# Altium footprint library STeRG-ICs-Standard.PcbLib: 44 footprints (part 2 of 3)
Each footprint in its own frame and in the unit in brackets; x right, y up, seen from the top. Pads: shape width x height; smd on the part's side, far side on the other; paste and mask are expansions set on the pad; w line width, h text height; cw(c..) or ccw(c..) is an arc to the next point about the centre after c.
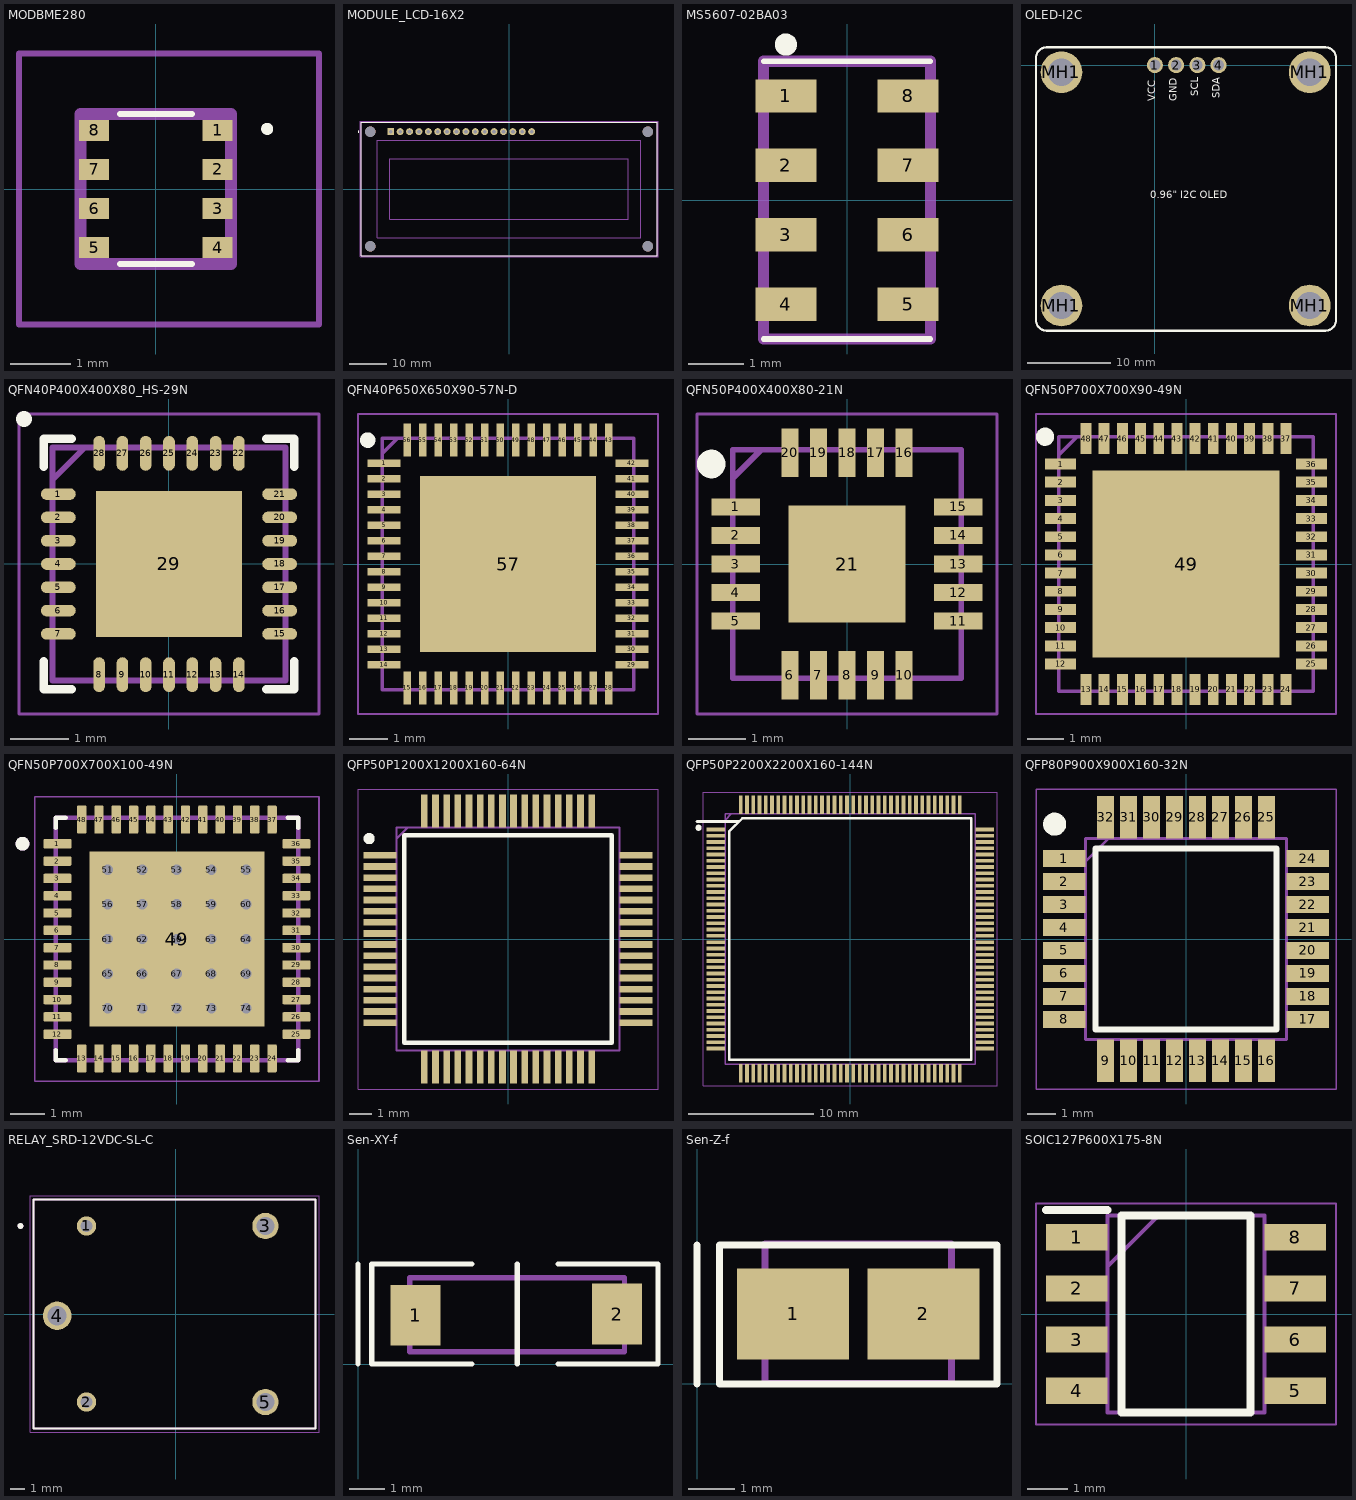
[diagram p1: the footprints below, top view; thin cyan lines are the x and y axes]

## MODBME280 [mm]
pads (8):
  rect 0.5x0.35 smd: 1(1.025,0.975) 2(1.025,0.325) 3(1.025,-0.325) 4(1.025,-0.975) 5(-1.025,-0.975) 6(-1.025,-0.325) 7(-1.025,0.325) 8(-1.025,0.975)
Top Overlay:
  lines w0.1: -0.6,-1.25 0.6,-1.25 ; -0.6,1.25 0.6,1.25 ; 1.8,1 cw(c1.85,1) 1.9,1 cw(c1.85,1) 1.8,1
Mechanical 13:
  lines w0.2: -1.25,-1.25 -1.25,1.25 1.25,1.25 1.25,-1.25 -1.25,-1.25
Mechanical 15:
  lines w0.1: -2.275,-2.25 -2.275,2.25 ; -2.275,-2.25 2.712,-2.25 ; -2.275,-2.25 -2.275,2.25 ; -2.275,-2.25 2.712,-2.25 ; -2.275,2.25 2.712,2.25 ; -2.275,2.25 2.712,2.25 ; 2.712,-2.25 2.712,2.25 ; 2.712,-2.25 2.712,2.25
3D body "MOD-BME280.stp": height 0.93, standoff 0, extent -1.25,-1.25 1.25,1.25

## MODULE_LCD-16X2 [mm]
height 14
pads (20):
  rect 1.88x1.88 / inner round 1.88 / far side rect 1.88x1.88 hole 1.016: 1(-32,15.5)
  round 1.88 hole 1.016: 2(-29.46,15.5) 3(-26.92,15.5) 4(-24.38,15.5) 5(-21.84,15.5) 6(-19.3,15.5) 7(-16.76,15.5) 8(-14.22,15.5) 9(-11.68,15.5) 10(-9.14,15.5) 11(-6.6,15.5) 12(-4.06,15.5) 13(-1.52,15.5) 14(1.02,15.5) 15(3.56,15.5) 16(6.1,15.5)
  round 2.8 hole 2.8 unplated: ""(-37.5,-15.5) ""(-37.5,15.5) ""(37.5,-15.5) ""(37.5,15.5)
Top Overlay:
  circle w0.2: c-40.75,15.5 r0.1
  lines w0.127: -40,-18 -40,18 40,18 40,-18 -40,-18
Mechanical 13:
  circle w0.2: c-40.75,15.5 r0.1
  lines w0.127: -40,-18 -40,18 40,18 40,-18 -40,-18 ; -35.65,-13.15 -35.65,13.15 35.65,13.15 35.65,-13.15 -35.65,-13.15 ; -32.25,-8.2 -32.25,8.2 32.25,8.2 32.25,-8.2 -32.25,-8.2
Mechanical 15:
  lines w0.05: -40.25,-18.25 40.25,-18.25 40.25,18.25 -40.25,18.25 -40.25,-18.25
3D body "step_temp.STEP": height 10.2, standoff -3, extent -40,-18 40,18

## MS5607-02BA03 [mm]
pads (8):
  rect 1.1x0.6 smd: 1(-1.1,1.875) 2(-1.1,0.625) 3(-1.1,-0.625) 4(-1.1,-1.875) 5(1.1,-1.875) 6(1.1,-0.625) 7(1.1,0.625) 8(1.1,1.875)
Top Overlay:
  circle w0.2: c-1.1,2.8 r0.1
  lines w0.1: -1.5,-2.5 1.5,-2.5 ; -1.5,2.5 1.5,2.5
Mechanical 13:
  lines w0.2: -1.5,-2.5 -1.5,2.5 1.5,2.5 1.5,-2.5 -1.5,-2.5
3D body "MS560702BA03-50.stp": height 0.95, standoff 0, extent -1.5,-2.4 1.5,2.6

## OLED-I2C [mm]
pads (8):
  round 1.935 hole 1.29: 1(0,0) 2(2.54,0) 3(5.08,0) 4(7.62,0)
  round 5 hole 3.25 unplated mask+0.2: MH1(-11.201,-28.804) MH1(-11.201,-0.864) MH1(18.542,-28.804) MH1(18.542,-0.864)
Top Overlay:
  lines w0.254: -10.033,2.134 20.422,2.134 cw(c20.422,0.864) 21.692,0.864 21.692,-30.556 cw(c20.422,-30.556) 20.422,-31.826 -12.979,-31.826 cw(c-12.979,-30.556) -14.249,-30.556 -14.249,0.864 cw(c-12.979,0.864) -12.979,2.134 -8.306,2.134
  text "VCC" at 0.364,-4.324 h1.5
  text "GND" at 2.904,-4.324 h1.5
  text "SCL" at 5.495,-3.714 h1.5
  text "SDA" at 8.035,-3.993 h1.5
  text "0.96\" I2C OLED" at -0.59,-16.265 h1.5
3D body "Tornillo plastico negro M3x6mm.SLDPRT": height 15.97, standoff 7.6, extent 15.83,-31.604 21.406,-26.004
3D body "Abstandhalter M3 IG-AG 12mm+6mm - PA 66, schwarz.stp": height 12, standoff -6, extent 15.868,-31.979 21.368,-25.628
3D body "Tornillo plastico negro M3x6mm.SLDPRT": height 15.97, standoff 7.6, extent 15.881,-3.689 21.457,1.911
3D body "Abstandhalter M3 IG-AG 12mm+6mm - PA 66, schwarz.stp": height 12, standoff -6, extent 15.919,-4.064 21.419,2.286
3D body "Tornillo plastico negro M3x6mm.SLDPRT": height 15.97, standoff 7.6, extent -13.939,-3.689 -8.362,1.911
3D body "Abstandhalter M3 IG-AG 12mm+6mm - PA 66, schwarz.stp": height 12, standoff -6, extent -13.901,-4.064 -8.401,2.286
3D body "Tornillo plastico negro M3x6mm.SLDPRT": height 15.97, standoff 7.6, extent -14.015,-31.629 -8.439,-26.029
3D body "Abstandhalter M3 IG-AG 12mm+6mm - PA 66, schwarz.stp": height 12, standoff -6, extent -13.977,-32.004 -8.477,-25.654
3D body "AZ-Delivery - OLED13 IIC.stp": height 14.6, standoff 3.4, extent -13.966,-31.602 21.434,1.898
3D body "1x4.STEP": height 9.5, standoff -8.14, extent -1.27,-1.245 8.89,1.295

## QFN40P400X400X80_HS-29N [mm] "QFN, 28-Leads, Body 4.00x4.00mm, Pitch 0.40mm, Thermal Pad 2.50x2.50mm, IPC Medium Density"
height 0.8
pads (29):
  oval 0.6x0.2 smd: 1(-1.9,1.2) 2(-1.9,0.8) 3(-1.9,0.4) 4(-1.9,0) 5(-1.9,-0.4) 6(-1.9,-0.8) 7(-1.9,-1.2) 15(1.9,-1.2) 16(1.9,-0.8) 17(1.9,-0.4) 18(1.9,0) 19(1.9,0.4) 20(1.9,0.8) 21(1.9,1.2)
  oval 0.2x0.6 smd: 8(-1.2,-1.9) 9(-0.8,-1.9) 10(-0.4,-1.9) 11(0,-1.9) 12(0.4,-1.9) 13(0.8,-1.9) 14(1.2,-1.9) 22(1.2,1.9) 23(0.8,1.9) 24(0.4,1.9) 25(0,1.9) 26(-0.4,1.9) 27(-0.8,1.9) 28(-1.2,1.9)
  rect 2.5x2.5 smd: 29(0,0)
Top Overlay:
  circle w0.25: c-2.489,2.489 r0.009
  lines w0.15: -2.15,-1.675 -2.15,-2.15 -1.675,-2.15 ; -2.15,1.675 -2.15,2.15 -1.675,2.15 ; 1.675,-2.15 2.15,-2.15 2.15,-1.675 ; 1.675,2.15 2.15,2.15 2.15,1.675
Top Courtyard:
  lines w0.05: -2.575,-2.575 2.575,-2.575 2.575,2.575 -2.575,2.575 -2.575,-2.575
  lines w0.1: -0.5,0 0.5,0 ; 0,-0.5 0,0.5
Top Assembly:
  lines w0.1: -2,1.448 -1.473,1.975 ; -2,-2 2,-2 2,2 -2,2 -2,-2
3D body "QFN40P400X400X80_HS-29N.step": height 0.8, standoff 0, extent -2.01,-2.01 2.01,2.01

## QFN40P650X650X90-57N-D [mm]
pads (57):
  rect 0.85x0.2 smd: 1(-3.2,2.6) 2(-3.2,2.2) 3(-3.2,1.8) 4(-3.2,1.4) 5(-3.2,1) 6(-3.2,0.6) 7(-3.2,0.2) 8(-3.2,-0.2) 9(-3.2,-0.6) 10(-3.2,-1) 11(-3.2,-1.4) 12(-3.2,-1.8) 13(-3.2,-2.2) 14(-3.2,-2.6) 29(3.2,-2.6) 30(3.2,-2.2) 31(3.2,-1.8) 32(3.2,-1.4) 33(3.2,-1) 34(3.2,-0.6) 35(3.2,-0.2) 36(3.2,0.2) 37(3.2,0.6) 38(3.2,1) 39(3.2,1.4) 40(3.2,1.8) 41(3.2,2.2) 42(3.2,2.6)
  rect 0.2x0.85 smd: 15(-2.6,-3.2) 16(-2.2,-3.2) 17(-1.8,-3.2) 18(-1.4,-3.2) 19(-1,-3.2) 20(-0.6,-3.2) 21(-0.2,-3.2) 22(0.2,-3.2) 23(0.6,-3.2) 24(1,-3.2) 25(1.4,-3.2) 26(1.8,-3.2) 27(2.2,-3.2) 28(2.6,-3.2) 43(2.6,3.2) 44(2.2,3.2) 45(1.8,3.2) 46(1.4,3.2) 47(1,3.2) 48(0.6,3.2) 49(0.2,3.2) 50(-0.2,3.2) 51(-0.6,3.2) 52(-1,3.2) 53(-1.4,3.2) 54(-1.8,3.2) 55(-2.2,3.2) 56(-2.6,3.2)
  rect 4.55x4.55 smd: 57(0,0)
Top Overlay:
  circle w0.2: c-3.625,3.2 r0.1
Mechanical 13:
  lines w0.1: -3.25,2.85 -2.85,3.25 ; -3.25,-3.25 -3.25,3.25 3.25,3.25 3.25,-3.25 -3.25,-3.25
Mechanical 15:
  lines w0.05: -3.875,-3.875 -3.875,3.875 3.875,3.875 3.875,-3.875 -3.875,-3.875
3D body "STPMIC25APQR.stp": height 0.9, standoff 0, extent -3.3,-3.3 3.3,3.3

## QFN50P400X400X80-21N [mm]
pads (21):
  rect 0.85x0.3 smd: 1(-1.95,1) 2(-1.95,0.5) 3(-1.95,0) 4(-1.95,-0.5) 5(-1.95,-1) 11(1.95,-1) 12(1.95,-0.5) 13(1.95,0) 14(1.95,0.5) 15(1.95,1)
  rect 0.3x0.85 smd: 6(-1,-1.95) 7(-0.5,-1.95) 8(0,-1.95) 9(0.5,-1.95) 10(1,-1.95) 16(1,1.95) 17(0.5,1.95) 18(0,1.95) 19(-0.5,1.95) 20(-1,1.95)
  rect 2.05x2.05 smd: 21(0,0)
Top Overlay:
  circle w0.25: c-2.375,1.75 r0.125
Mechanical 13:
  lines w0.1: -2,1.5 -1.5,2 ; -2,-2 -2,2 2,2 2,-2 -2,-2
Mechanical 15:
  lines w0.05: -2.625,-2.625 -2.625,2.625 2.625,2.625 2.625,-2.625 -2.625,-2.625
3D body "FT231XQ-R.stp": height 0.8, standoff 0, extent -2.05,-2.05 2.05,2.05

## QFN50P700X700X90-49N [mm]
pads (49):
  rect 0.85x0.3 smd: 1(-3.45,2.75) 2(-3.45,2.25) 3(-3.45,1.75) 4(-3.45,1.25) 5(-3.45,0.75) 6(-3.45,0.25) 7(-3.45,-0.25) 8(-3.45,-0.75) 9(-3.45,-1.25) 10(-3.45,-1.75) 11(-3.45,-2.25) 12(-3.45,-2.75) 25(3.45,-2.75) 26(3.45,-2.25) 27(3.45,-1.75) 28(3.45,-1.25) 29(3.45,-0.75) 30(3.45,-0.25) 31(3.45,0.25) 32(3.45,0.75) 33(3.45,1.25) 34(3.45,1.75) 35(3.45,2.25) 36(3.45,2.75)
  rect 0.3x0.85 smd: 13(-2.75,-3.45) 14(-2.25,-3.45) 15(-1.75,-3.45) 16(-1.25,-3.45) 17(-0.75,-3.45) 18(-0.25,-3.45) 19(0.25,-3.45) 20(0.75,-3.45) 21(1.25,-3.45) 22(1.75,-3.45) 23(2.25,-3.45) 24(2.75,-3.45) 37(2.75,3.45) 38(2.25,3.45) 39(1.75,3.45) 40(1.25,3.45) 41(0.75,3.45) 42(0.25,3.45) 43(-0.25,3.45) 44(-0.75,3.45) 45(-1.25,3.45) 46(-1.75,3.45) 47(-2.25,3.45) 48(-2.75,3.45)
  rect 5.15x5.15 smd: 49(0,0)
Top Overlay:
  circle w0.25: c-3.875,3.5 r0.125
Mechanical 13:
  lines w0.1: -3.5,3 -3,3.5 ; -3.5,-3.5 -3.5,3.5 3.5,3.5 3.5,-3.5 -3.5,-3.5
Mechanical 15:
  lines w0.05: -4.125,-4.125 -4.125,4.125 4.125,4.125 4.125,-4.125 -4.125,-4.125
3D body "KSZ9131RNXC.stp": height 0.9, standoff 0, extent -3.55,-3.55 3.55,3.55

## QFN50P700X700X100-49N [mm]
height 1
pads (74):
  rrect25% 0.81x0.27 smd paste+0 mask+0.102: 1(-3.45,2.75) 2(-3.45,2.25) 3(-3.45,1.75) 4(-3.45,1.25) 5(-3.45,0.75) 6(-3.45,0.25) 7(-3.45,-0.25) 8(-3.45,-0.75) 9(-3.45,-1.25) 10(-3.45,-1.75) 11(-3.45,-2.25) 12(-3.45,-2.75) 25(3.45,-2.75) 26(3.45,-2.25) 27(3.45,-1.75) 28(3.45,-1.25) 29(3.45,-0.75) 30(3.45,-0.25) 31(3.45,0.25) 32(3.45,0.75) 33(3.45,1.25) 34(3.45,1.75) 35(3.45,2.25) 36(3.45,2.75)
  rrect25% 0.27x0.81 smd paste+0 mask+0.102: 13(-2.75,-3.45) 14(-2.25,-3.45) 15(-1.75,-3.45) 16(-1.25,-3.45) 17(-0.75,-3.45) 18(-0.25,-3.45) 19(0.25,-3.45) 20(0.75,-3.45) 21(1.25,-3.45) 22(1.75,-3.45) 23(2.25,-3.45) 24(2.75,-3.45) 37(2.75,3.45) 38(2.25,3.45) 39(1.75,3.45) 40(1.25,3.45) 41(0.75,3.45) 42(0.25,3.45) 43(-0.25,3.45) 44(-0.75,3.45) 45(-1.25,3.45) 46(-1.75,3.45) 47(-2.25,3.45) 48(-2.75,3.45)
  rect 5.05x5.05 smd paste-4 mask+0.102: 49(0,0)
  round 0.4 hole 0.3 mask+0: 50(0,0) 51(-2,2) 52(-1,2) 53(0,2) 54(1,2) 55(2,2) 56(-2,1) 57(-1,1) 58(0,1) 59(1,1) 60(2,1) 61(-2,0) 62(-1,0) 63(1,0) 64(2,0) 65(-2,-1) 66(-1,-1) 67(0,-1) 68(1,-1) 69(2,-1) 70(-2,-2) 71(-1,-2) 72(0,-2) 73(1,-2) 74(2,-2)
Top Overlay:
  circle w0.2: c-4.46,2.75 r0.1
  lines w0.127: -3.5,-3.205 -3.5,-3.5 -3.205,-3.5 ; -3.5,3.205 -3.5,3.5 -3.205,3.5 ; 3.205,-3.5 3.5,-3.5 3.5,-3.205 ; 3.205,3.5 3.5,3.5 3.5,3.205
Top Paste:
  region: 2.055,-2.055 0.455,-2.055 0.455,-0.455 2.055,-0.455
  region: -0.465,-2.055 -2.065,-2.055 -2.065,-0.455 -0.465,-0.455
  region: 2.055,0.465 0.455,0.465 0.455,2.065 2.055,2.065
  region: -0.465,0.465 -2.065,0.465 -2.065,2.065 -0.465,2.065
Mechanical 13:
  circle w0.2: c-4.46,2.75 r0.1
  lines w0.127: -3.5,-3.5 -3.5,3.5 3.5,3.5 3.5,-3.5 -3.5,-3.5
Mechanical 15:
  lines w0.05: -4.105,-4.105 -4.105,4.105 4.105,4.105 4.105,-4.105 -4.105,-4.105
3D body "step_temp.STEP": height 1, standoff 0, extent -3.5,-3.5 3.5,3.5

## QFP50P1200X1200X160-64N [mm]
pads (64):
  rect 1.475x0.3 smd: 1(-5.738,3.75) 2(-5.738,3.25) 3(-5.738,2.75) 4(-5.738,2.25) 5(-5.738,1.75) 6(-5.738,1.25) 7(-5.738,0.75) 8(-5.738,0.25) 9(-5.738,-0.25) 10(-5.738,-0.75) 11(-5.738,-1.25) 12(-5.738,-1.75) 13(-5.738,-2.25) 14(-5.738,-2.75) 15(-5.738,-3.25) 16(-5.738,-3.75) 33(5.738,-3.75) 34(5.738,-3.25) 35(5.738,-2.75) 36(5.738,-2.25) 37(5.738,-1.75) 38(5.738,-1.25) 39(5.738,-0.75) 40(5.738,-0.25) 41(5.738,0.25) 42(5.738,0.75) 43(5.738,1.25) 44(5.738,1.75) 45(5.738,2.25) 46(5.738,2.75) 47(5.738,3.25) 48(5.738,3.75)
  rect 0.3x1.475 smd: 17(-3.75,-5.738) 18(-3.25,-5.738) 19(-2.75,-5.738) 20(-2.25,-5.738) 21(-1.75,-5.738) 22(-1.25,-5.738) 23(-0.75,-5.738) 24(-0.25,-5.738) 25(0.25,-5.738) 26(0.75,-5.738) 27(1.25,-5.738) 28(1.75,-5.738) 29(2.25,-5.738) 30(2.75,-5.738) 31(3.25,-5.738) 32(3.75,-5.738) 49(3.75,5.738) 50(3.25,5.738) 51(2.75,5.738) 52(2.25,5.738) 53(1.75,5.738) 54(1.25,5.738) 55(0.75,5.738) 56(0.25,5.738) 57(-0.25,5.738) 58(-0.75,5.738) 59(-1.25,5.738) 60(-1.75,5.738) 61(-2.25,5.738) 62(-2.75,5.738) 63(-3.25,5.738) 64(-3.75,5.738)
Top Overlay:
  circle w0.25: c-6.225,4.5 r0.125
  lines w0.2: -4.65,-4.65 4.65,-4.65 4.65,4.65 -4.65,4.65 -4.65,-4.65
Mechanical 13:
  lines w0.1: -5,4.5 -4.5,5 ; -5,-5 5,-5 5,5 -5,5 -5,-5
Mechanical 15:
  lines w0.05: -6.725,-6.725 6.725,-6.725 6.725,6.725 -6.725,6.725 -6.725,-6.725
3D body "STM32F446RET6TR.stp": height 1.6, standoff 0, extent -6,-6 6,6

## QFP50P2200X2200X160-144N [mm]
pads (144):
  rect 1.475x0.3 smd: 1(-10.738,8.75) 2(-10.738,8.25) 3(-10.738,7.75) 4(-10.738,7.25) 5(-10.738,6.75) 6(-10.738,6.25) 7(-10.738,5.75) 8(-10.738,5.25) 9(-10.738,4.75) 10(-10.738,4.25) 11(-10.738,3.75) 12(-10.738,3.25) 13(-10.738,2.75) 14(-10.738,2.25) 15(-10.738,1.75) 16(-10.738,1.25) 17(-10.738,0.75) 18(-10.738,0.25) 19(-10.738,-0.25) 20(-10.738,-0.75) 21(-10.738,-1.25) 22(-10.738,-1.75) 23(-10.738,-2.25) 24(-10.738,-2.75) 25(-10.738,-3.25) 26(-10.738,-3.75) 27(-10.738,-4.25) 28(-10.738,-4.75) 29(-10.738,-5.25) 30(-10.738,-5.75) 31(-10.738,-6.25) 32(-10.738,-6.75) 33(-10.738,-7.25) 34(-10.738,-7.75) 35(-10.738,-8.25) 36(-10.738,-8.75) 73(10.738,-8.75) 74(10.738,-8.25) 75(10.738,-7.75) 76(10.738,-7.25) 77(10.738,-6.75) 78(10.738,-6.25) 79(10.738,-5.75) 80(10.738,-5.25) 81(10.738,-4.75) 82(10.738,-4.25) 83(10.738,-3.75) 84(10.738,-3.25) 85(10.738,-2.75) 86(10.738,-2.25) 87(10.738,-1.75) 88(10.738,-1.25) 89(10.738,-0.75) 90(10.738,-0.25) 91(10.738,0.25) 92(10.738,0.75) 93(10.738,1.25) 94(10.738,1.75) 95(10.738,2.25) 96(10.738,2.75) 97(10.738,3.25) 98(10.738,3.75) 99(10.738,4.25) 100(10.738,4.75) 101(10.738,5.25) 102(10.738,5.75) 103(10.738,6.25) 104(10.738,6.75) 105(10.738,7.25) 106(10.738,7.75) 107(10.738,8.25) 108(10.738,8.75)
  rect 0.3x1.475 smd: 37(-8.75,-10.738) 38(-8.25,-10.738) 39(-7.75,-10.738) 40(-7.25,-10.738) 41(-6.75,-10.738) 42(-6.25,-10.738) 43(-5.75,-10.738) 44(-5.25,-10.738) 45(-4.75,-10.738) 46(-4.25,-10.738) 47(-3.75,-10.738) 48(-3.25,-10.738) 49(-2.75,-10.738) 50(-2.25,-10.738) 51(-1.75,-10.738) 52(-1.25,-10.738) 53(-0.75,-10.738) 54(-0.25,-10.738) 55(0.25,-10.738) 56(0.75,-10.738) 57(1.25,-10.738) 58(1.75,-10.738) 59(2.25,-10.738) 60(2.75,-10.738) 61(3.25,-10.738) 62(3.75,-10.738) 63(4.25,-10.738) 64(4.75,-10.738) 65(5.25,-10.738) 66(5.75,-10.738) 67(6.25,-10.738) 68(6.75,-10.738) 69(7.25,-10.738) 70(7.75,-10.738) 71(8.25,-10.738) 72(8.75,-10.738) 109(8.75,10.738) 110(8.25,10.738) 111(7.75,10.738) 112(7.25,10.738) 113(6.75,10.738) 114(6.25,10.738) 115(5.75,10.738) 116(5.25,10.738) 117(4.75,10.738) 118(4.25,10.738) 119(3.75,10.738) 120(3.25,10.738) 121(2.75,10.738) 122(2.25,10.738) 123(1.75,10.738) 124(1.25,10.738) 125(0.75,10.738) 126(0.25,10.738) 127(-0.25,10.738) 128(-0.75,10.738) 129(-1.25,10.738) 130(-1.75,10.738) 131(-2.25,10.738) 132(-2.75,10.738) 133(-3.25,10.738) 134(-3.75,10.738) 135(-4.25,10.738) 136(-4.75,10.738) 137(-5.25,10.738) 138(-5.75,10.738) 139(-6.25,10.738) 140(-6.75,10.738) 141(-7.25,10.738) 142(-7.75,10.738) 143(-8.25,10.738) 144(-8.75,10.738)
Top Overlay:
  circle w0.25: c-12.116,8.89 r0.125
  lines w0.2: -9.65,-9.65 -9.65,8.613 -8.613,9.65 9.65,9.65 9.65,-9.65 -9.65,-9.65
  lines w0.254: -12.243,9.398 -8.915,9.398
Mechanical 13:
  lines w0.1: -10,9.5 -9.5,10 ; -10,-10 -10,10 10,10 10,-10 -10,-10
Mechanical 15:
  lines w0.05: -11.725,-11.725 -11.725,11.725 11.725,11.725 11.725,-11.725 -11.725,-11.725
3D body "STM32H750ZBT6.stp": height 1.6, standoff 0, extent -10.948,-10.948 10.948,10.948

## QFP80P900X900X160-32N [mm]
pads (32):
  rect 1.475x0.6 smd: 1(-4.238,2.8) 2(-4.238,2) 3(-4.238,1.2) 4(-4.238,0.4) 5(-4.238,-0.4) 6(-4.238,-1.2) 7(-4.238,-2) 8(-4.238,-2.8) 17(4.238,-2.8) 18(4.238,-2) 19(4.238,-1.2) 20(4.238,-0.4) 21(4.238,0.4) 22(4.238,1.2) 23(4.238,2) 24(4.238,2.8)
  rect 0.6x1.475 smd: 9(-2.8,-4.238) 10(-2,-4.238) 11(-1.2,-4.238) 12(-0.4,-4.238) 13(0.4,-4.238) 14(1.2,-4.238) 15(2,-4.238) 16(2.8,-4.238) 25(2.8,4.238) 26(2,4.238) 27(1.2,4.238) 28(0.4,4.238) 29(-0.4,4.238) 30(-1.2,4.238) 31(-2,4.238) 32(-2.8,4.238)
Top Overlay:
  circle w0.4: c-4.575,4 r0.2
  lines w0.2: -3.15,-3.15 3.15,-3.15 3.15,3.15 -3.15,3.15 -3.15,-3.15
Mechanical 13:
  lines w0.1: -3.5,2.7 -2.7,3.5 ; -3.5,-3.5 3.5,-3.5 3.5,3.5 -3.5,3.5 -3.5,-3.5
Mechanical 15:
  lines w0.05: -5.225,-5.225 5.225,-5.225 5.225,5.225 -5.225,5.225 -5.225,-5.225
3D body "TUSB3410VF.stp": height 1.5, standoff 0, extent -4.515,-4.515 4.515,4.515

## RELAY_SRD-12VDC-SL-C [mm]
height 15.8
pads (5):
  round 1.308 hole 0.8: 1(-6.1,6) 2(-6.1,-6)
  round 1.8 hole 1.2: 3(6.1,6) 5(6.1,-6)
  round 1.95 hole 1.3: 4(-8.1,-0.12)
Top Overlay:
  circle w0.2: c-10.6,6 r0.1
  lines w0.127: -9.7,-7.8 9.5,-7.8 9.5,7.8 -9.7,7.8 -9.7,-7.8
Mechanical 13:
  circle w0.2: c-10.6,6 r0.1
  lines w0.127: -9.7,-7.8 9.5,-7.8 9.5,7.8 -9.7,7.8 -9.7,-7.8
Mechanical 15:
  lines w0.05: -9.95,-8.05 9.75,-8.05 9.75,8.05 -9.95,8.05 -9.95,-8.05
3D body "step_temp.STEP": height 15.8, standoff -3, extent -9.6,-7.8 9.6,7.8

## Sen-XY-f [mm]
pads (2):
  rect 1.4x1.7 smd paste-2539.97 mask+0.125: 1(1.609,1.362) 2(7.239,1.397)
Top Overlay:
  lines w0.15: 0,0 0,2.794 ; 3.175,0 0.381,0 0.381,2.794 3.175,2.794 ; 4.445,0 4.445,2.794 ; 5.588,0 8.382,0 8.382,2.794 5.588,2.794
Top Paste:
  region: 6.689,0.797 6.689,1.997 7.289,1.997 7.289,0.797
  region: 1.559,0.762 1.559,1.962 2.159,1.962 2.159,0.762
Mechanical 1:
  lines w0.15: 1.445,0.347 1.445,2.413 2.54,2.413 7.445,2.413 7.445,0.347 1.445,0.347
3D body "13104.stp": height 2.15, standoff 0, extent 1.445,0.347 7.445,2.447

## Sen-Z-f [mm]
pads (2):
  rect 2.4x1.95 smd paste-2539.97 mask+0.125: 1(2.057,1.499) 2(4.851,1.499)
Top Overlay:
  lines w0.15: 0,0 0,2.972 ; 0.483,0 6.426,0 6.426,2.972 5.436,2.972 0.508,2.972 0.483,2.972 0.483,0
Top Paste:
  region: 1.577,0.824 3.237,0.824 3.237,2.174 1.577,2.174
  region: 3.671,0.824 5.331,0.824 5.331,2.174 3.671,2.174
Mechanical 1:
  lines w0.15: 1.454,0.009 5.454,0.009 5.454,2.989 1.454,2.989 1.454,0.009
3D body "13101.stp": height 6.4, standoff 0, extent 1.454,0.009 5.454,2.989

## SOIC127P600X175-8N [mm]
pads (8):
  rect 1.525x0.65 smd: 1(-2.712,1.905) 2(-2.712,0.635) 3(-2.712,-0.635) 4(-2.712,-1.905) 5(2.712,-1.905) 6(2.712,-0.635) 7(2.712,0.635) 8(2.712,1.905)
Top Overlay:
  lines w0.2: -3.475,2.58 -1.95,2.58 ; -1.6,-2.45 1.6,-2.45 1.6,2.45 -1.6,2.45 -1.6,-2.45
Mechanical 13:
  lines w0.1: -1.95,1.18 -0.68,2.45 ; -1.95,-2.45 1.95,-2.45 1.95,2.45 -1.95,2.45 -1.95,-2.45
Mechanical 15:
  lines w0.05: -3.725,-2.75 3.725,-2.75 3.725,2.75 -3.725,2.75 -3.725,-2.75
3D body "NE555DR.stp": height 1.75, standoff 0, extent -3,-2.45 3,2.45